# Altium footprint library JMPKG.PcbLib: 337 footprints (part 22 of 22)
Each footprint in its own frame and in the unit in brackets; x right, y up, seen from the top. Pads: shape width x height; smd on the part's side, far side on the other; paste and mask are expansions set on the pad; w line width, h text height; cw(c..) or ccw(c..) is an arc to the next point about the centre after c.
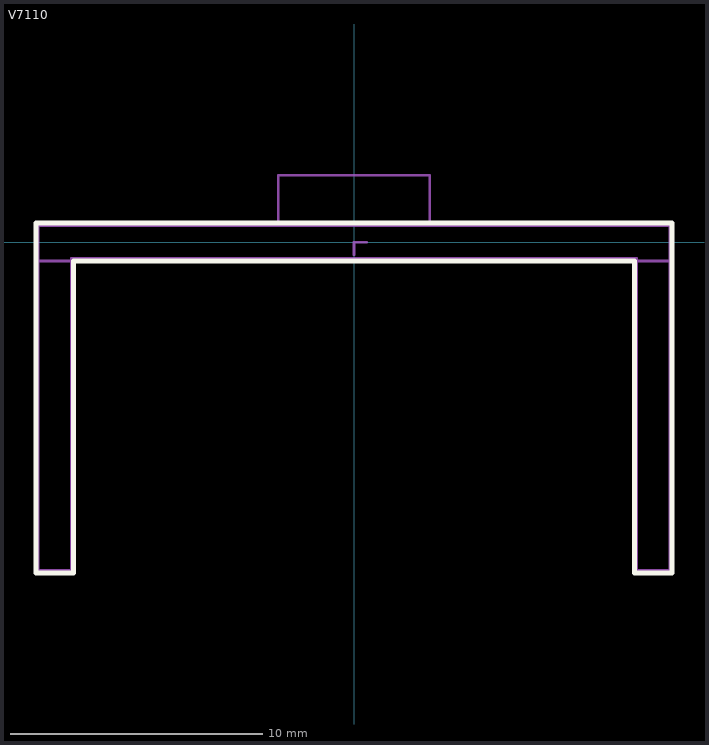
[diagram p21: the footprint, top view; thin cyan lines are the x and y axes]

## V7110 [mm]
Top Overlay:
  lines w0.2: -12.6,-13.1 -11.1,-13.1 -11.1,-0.75 11.1,-0.75 11.1,-13.1 12.6,-13.1 12.6,0.75 -12.6,0.75 -12.6,-13.1
Mechanical 15:
  lines w0.1: -3,0.65 -3,2.65 3,2.65 3,0.65 ; -12.5,-13 -11.2,-13 -11.2,-0.65 11.2,-0.65 11.2,-13 12.5,-13 12.5,0.65 -12.5,0.65 -12.5,-13
Multi-Layer:
  text "Value" at 1.865,-0.325 h0.75
Mechanical 19:
  lines w0.1: 0,-0.5 0,0 0.5,0
Mechanical 20:
  lines w0.1: -12.6,-0.75 -12.6,0.75 12.6,0.75 12.6,-0.75 -12.6,-0.75